# Altium schematic symbol library Vesta_cape.SchLib: 8 symbols
Pins are listed as number, name and electrical type; pins without a type are passive.

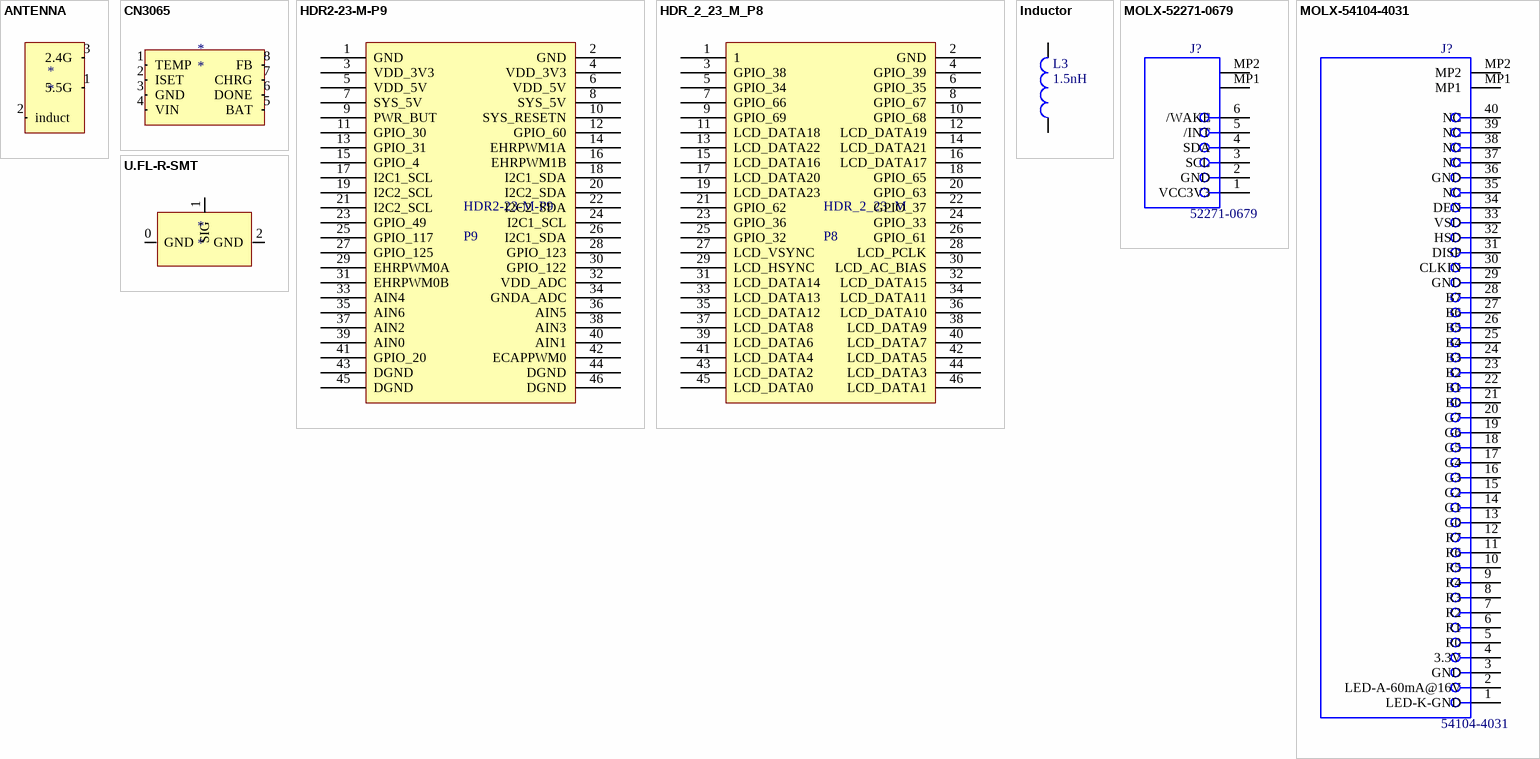
[diagram p0: symbols ANTENNA to U.FL-R-SMT]

## ANTENNA
designator *
footprint ANT_BRD_CUT
pins: 1 5.5G, 2 induct, 3 2.4G

## CN3065
designator *
footprint CN3065-LIPO (QFN, 8-Leads, Body 3,00x3,00mm, Pitch 0,50mm, Thermal Pad 2,40x1,70mm, IPC Medium Density)
pins: 1 TEMP, 2 ISET, 3 GND, 4 VIN, 5 BAT, 6 DONE, 7 CHRG, 8 FB

## HDR2-23-M-P9
designator HDR2-23-M-P9, comment P9
BBB-P9
footprint HEADER_23_2_SMD
pins: 1 GND, 2 GND, 3 VDD_3V3, 4 VDD_3V3, 5 VDD_5V, 6 VDD_5V, 7 SYS_5V, 8 SYS_5V, 9 PWR_BUT, 10 SYS_RESETN, 11 GPIO_30, 12 GPIO_60, 13 GPIO_31, 14 EHRPWM1A, 15 GPIO_4, 16 EHRPWM1B, 17 I2C1_SCL, 18 I2C1_SDA, 19 I2C2_SCL, 20 I2C2_SDA, 21 I2C2_SCL, 22 I2C2_SDA, 23 GPIO_49, 24 I2C1_SCL, 25 GPIO_117, 26 I2C1_SDA, 27 GPIO_125, 28 GPIO_123, 29 EHRPWM0A, 30 GPIO_122, 31 EHRPWM0B, 32 VDD_ADC, 33 AIN4, 34 GNDA_ADC, 35 AIN6, 36 AIN5, 37 AIN2, 38 AIN3, 39 AIN0, 40 AIN1, 41 GPIO_20, 42 ECAPPWM0, 43 DGND, 44 DGND, 45 DGND, 46 DGND

## HDR_2_23_M_P8
designator HDR_2_23_M, comment P8
BBB-P8
footprint HEADER_23_2_SMD
pins: 1, 2 GND, 3 GPIO_38, 4 GPIO_39, 5 GPIO_34, 6 GPIO_35, 7 GPIO_66, 8 GPIO_67, 9 GPIO_69, 10 GPIO_68, 11 LCD_DATA18, 12 LCD_DATA19, 13 LCD_DATA22, 14 LCD_DATA21, 15 LCD_DATA16, 16 LCD_DATA17, 17 LCD_DATA20, 18 GPIO_65, 19 LCD_DATA23, 20 GPIO_63, 21 GPIO_62, 22 GPIO_37, 23 GPIO_36, 24 GPIO_33, 25 GPIO_32, 26 GPIO_61, 27 LCD_VSYNC, 28 LCD_PCLK, 29 LCD_HSYNC, 30 LCD_AC_BIAS, 31 LCD_DATA14, 32 LCD_DATA15, 33 LCD_DATA13, 34 LCD_DATA11, 35 LCD_DATA12, 36 LCD_DATA10, 37 LCD_DATA8, 38 LCD_DATA9, 39 LCD_DATA6, 40 LCD_DATA7, 41 LCD_DATA4, 42 LCD_DATA5, 43 LCD_DATA2, 44 LCD_DATA3, 45 LCD_DATA0, 46 LCD_DATA1

## Inductor
designator L3, comment 1.5nH
Inductor; Code_IEC: 1005; Value: 1.5nHH; Published: 8-Jun-2000; LatestRevisionDate: 29-May-2009; LatestRevisionNote: IPC-7351 Footprint Added.; PackageReference: 0402-A; Publisher: Altium Limited; PackageDescription: Chip Inductor; Code_JEITA: 0402
footprint 0402-A (Chip Inductor, Body 1.0x0.5mm, IPC High Density)
footprint INDC1608L (Chip Inductor, Body 1.6x0.8mm, IPC High Density)
footprint 2029 (Chip Inductor, Body 2.0x1.2mm, IPC High Density)
footprint 0603 (Chip Inductor, Body 0.6x0.3mm, IPC High Density)
footprint INDC3216 (Chip Inductor, Body 3.2x1.6mm, IPC High Density)
footprint INDC4532 (Chip Inductor, Body 4.5x3.2mm, IPC High Density)
simulation model INDUCTOR (Inductor)
signal-integrity model Inductor
pins: 1, 2

## MOLX-52271-0679
designator J?, comment 52271-0679
1.0 mm Pitch Easy-On(TM) Type FPC Connector, 3.0 mm Mated Height, Right Angle, ZIF, SMT, Bottom Contact, 6 Circuits, -40 to 85 degC, ELV and RoHS Compliant, Tape and Reel; Manufacturer: Molex; Material - Plating Termination: Tin-Bismuth; Pitch - Mating Interface: 1.00mm; Voltage (Max): 50V AC (RMS)/DC; Durability (mating cycles max): 30; Mated Height: 3.00mm; PCB Locator: No; Polarized to PCB: Yes; Material - Metal: Phosphor Bronze; Current (Max per Contact): 0.5A; Circuits (Loaded): 6; Entry Angle: 90degrees Angle; ComponentLink1Description: Manufacturer URL; PackageVersion: Rev. B, 04/2004; PackageDescription: 6-Lead FPC Connector, Pitch 1.0 mm; Packing: Tape and Reel; Contact Position: Bottom; Material - Plating Mating: Tin-Bismuth; PackageReference: 52271-0679; RoHS: TRUE; ComponentLink2Description: Datasheet; ComponentLink1URL: http://www.molex.com/molex/index.jsp; PartNumber: 52271-0679; Pitch - Termination Interface: 1.00mm; ComponentLink3URL: http://www.molex.com/pdm_docs/sd/522710679_sd.pdf; Orientation: Right Angle; Number of Rows: 1; Stackable: No; PCB Retention: Yes; Mounting Technology: Surface Mount; ComponentLink3Description: Package Specification; ComponentLink2URL: http://www.molex.com/webdocs/datasheets/pdf/en-us/0522710679_FFC_FPC_CONNECTORS.pdf
footprint MOLX-52271-0679 (FPC Connector, 6-Leads, Right Angle, Pitch 1.0 mm, Mated Height 3.0 mm, SMT)
pins: 1 VCC3V3, 2 GND, 3 SCL, 4 SDA, 5 /INT, 6 /WAKE, MP1, MP2

## MOLX-54104-4031
designator J?, comment 54104-4031
0.5 mm Pitch Easy-On(TM) Type FPC Connector, 2.0 mm Mated Height, Right Angle, ZIF, SMT, Top Contact, 40 Circuits, -20 to 85 degC, ELV and RoHS Compliant, Tape and Reel; Manufacturer: Molex; PCB Retention: Yes; Current (Max per Contact): 0.5A; Stackable: No; Durability (mating cycles max): 20; Pitch - Mating Interface: 0.50mm; Circuits (Loaded): 40; Mated Height: 2.00mm; Entry Angle: 90degrees Angle; Material - Metal: Phosphor Bronze; Voltage (Max): 50V; ComponentLink3URL: http://www.molex.com/pdm_docs/sd/541044031_sd.pdf; ComponentLink2URL: http://www.molex.com/webdocs/datasheets/pdf/en-us/0541044031_FFC_FPC_CONNECTORS.pdf; Number of Rows: 1; ComponentLink1Description: Manufacturer URL; ComponentLink2Description: Datasheet; Mounting Technology: Surface Mount; ComponentLink1URL: http://www.molex.com/molex/index.jsp; RoHS: TRUE; PackageReference: 54104-4031; Polarized to PCB: Yes; ComponentLink3Description: Package Specification; PackageVersion: Rev. F, 06/2012; PackageDescription: 40-Lead FPC Connector, Pitch 0.5 mm; Contact Position: Top; PCB Locator: No; PartNumber: 54104-4031; Orientation: Right Angle; Packing: Tape and Reel
footprint MOLX-54104-4031 (Footprint not found); pin to pad 1>40 2>39 3>38 4>37 5>36 6>35 7>34 8>33 9>32 10>31 11>30 12>29 13>28 14>27 15>26 16>25 17>24 18>23 19>22 20>21 21>20 22>19 23>18 24>17 25>16 26>15 27>14 28>13 29>12 30>11 31>10 32>9 33>8 34>7 35>6 36>5 37>4 38>3 39>2 40>1
pins: 1 LED-K-GND, 2 LED-A-60mA@16V, 3 GND, 4 3.3V, 5 R0, 6 R1, 7 R2, 8 R3, 9 R4, 10 R5, 11 R6, 12 R7, 13 G0, 14 G1, 15 G2, 16 G3, 17 G4, 18 G5, 19 G6, 20 G7, 21 B0, 22 B1, 23 B2, 24 B3, 25 B4, 26 B5, 27 B6, 28 B7, 29 GND, 30 CLKIN, 31 DISP, 32 HSD, 33 VSD, 34 DEN, 35 NC, 36 GND, 37 NC, 38 NC, 39 NC, 40 NC, MP1, MP2

## U.FL-R-SMT
designator *
footprint U.FL-R-SMT; pin to pad 0>2
pins: 0 GND, 1 SIG, 2 GND